# Altium schematic symbol library 691 317 510 0xx.SchLib: 6 symbols
Pins are listed as number, name and electrical type; pins without a type are passive.

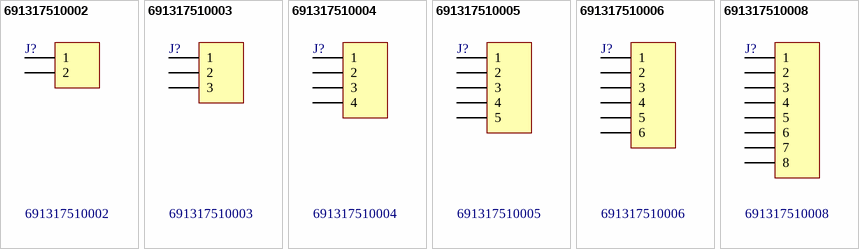
[diagram p0: symbols 691317510002 to 691317510008]

## 691317510002
designator J?
WR-TBL Terminal Blocks Serie 3175 - 5.08 mm  with Flanges; Manufacturer: Würth Elektronik eiSos GmbH; ComponentLink1 Description: Manufacturer; ComponentLink2 Description: Datasheet; NoPins: 02; Created Date: 09 April 2014; partNo: 691317510002; ComponentLink1URL: http://www.we-online.com; ComponentLink2URL: http://katalog.we-online.de/em/datasheet/6913175100xx.pdf; Created by: Karrer Zheng; Value: 691317510002
footprint 691317510002 (5,08mm - PCB Horizontal Closed With flanges - 02p)
pins: 1, 2

## 691317510003
designator J?
WR-TBL Terminal Blocks Serie 3175 - 5.08 mm  with Flanges; Manufacturer: Würth Elektronik eiSos GmbH; ComponentLink1 Description: Manufacturer; ComponentLink2 Description: Datasheet; NoPins: 03; Created Date: 09 April 2014; partNo: 691317510003; ComponentLink1URL: http://www.we-online.com; ComponentLink2URL: http://katalog.we-online.de/em/datasheet/6913175100xx.pdf; Created by: Karrer Zheng; Value: 691317510003
footprint 691317510003 (5,08mm - PCB Horizontal Closed With flanges - 03p)
pins: 1, 2, 3

## 691317510004
designator J?
WR-TBL Terminal Blocks Serie 3175 - 5.08 mm  with Flanges; Manufacturer: Würth Elektronik eiSos GmbH; ComponentLink1 Description: Manufacturer; ComponentLink2 Description: Datasheet; NoPins: 04; Created Date: 09 April 2014; partNo: 691317510004; ComponentLink1URL: http://www.we-online.com; ComponentLink2URL: http://katalog.we-online.de/em/datasheet/6913175100xx.pdf; Created by: Karrer Zheng; Value: 691317510004
footprint 691317510004 (5,08mm - PCB Horizontal Closed With flanges - 04p)
pins: 1, 2, 3, 4

## 691317510005
designator J?
WR-TBL Terminal Blocks Serie 3175 - 5.08 mm  with Flanges; Manufacturer: Würth Elektronik eiSos GmbH; ComponentLink1 Description: Manufacturer; ComponentLink2 Description: Datasheet; NoPins: 05; Created Date: 09 April 2014; partNo: 691317510005; ComponentLink1URL: http://www.we-online.com; ComponentLink2URL: http://katalog.we-online.de/em/datasheet/6913175100xx.pdf; Created by: Karrer Zheng; Value: 691317510005
footprint 691317510005 (5,08mm - PCB Horizontal Closed With flanges - 05p)
pins: 1, 2, 3, 4, 5

## 691317510006
designator J?
WR-TBL Terminal Blocks Serie 3175 - 5.08 mm  with Flanges; Manufacturer: Würth Elektronik eiSos GmbH; ComponentLink1 Description: Manufacturer; ComponentLink2 Description: Datasheet; NoPins: 06; Created Date: 09 April 2014; partNo: 691317510006; ComponentLink1URL: http://www.we-online.com; ComponentLink2URL: http://katalog.we-online.de/em/datasheet/6913175100xx.pdf; Created by: Karrer Zheng; Value: 691317510006
footprint 691317510006 (5,08mm - PCB Horizontal Closed With flanges - 06p)
pins: 1, 2, 3, 4, 5, 6

## 691317510008
designator J?
WR-TBL Terminal Blocks Serie 3175 - 5.08 mm  with Flanges; Manufacturer: Würth Elektronik eiSos GmbH; ComponentLink1 Description: Manufacturer; ComponentLink2 Description: Datasheet; NoPins: 08; Created Date: 09 April 2014; partNo: 691317510008; ComponentLink1URL: http://www.we-online.com; ComponentLink2URL: http://katalog.we-online.de/em/datasheet/6913175100xx.pdf; Created by: Karrer Zheng; Value: 691317510008
footprint 691317510008 (5,08mm - PCB Horizontal Closed With flanges - 08p)
pins: 1, 2, 3, 4, 5, 6, 7, 8